# Altium footprint library 3-C-Ceramics.PcbLib: 89 footprints (part 2 of 6)
Each footprint in its own frame and in the unit in brackets; x right, y up, seen from the top. Pads: shape width x height; smd on the part's side, far side on the other; paste and mask are expansions set on the pad; w line width, h text height; cw(c..) or ccw(c..) is an arc to the next point about the centre after c.
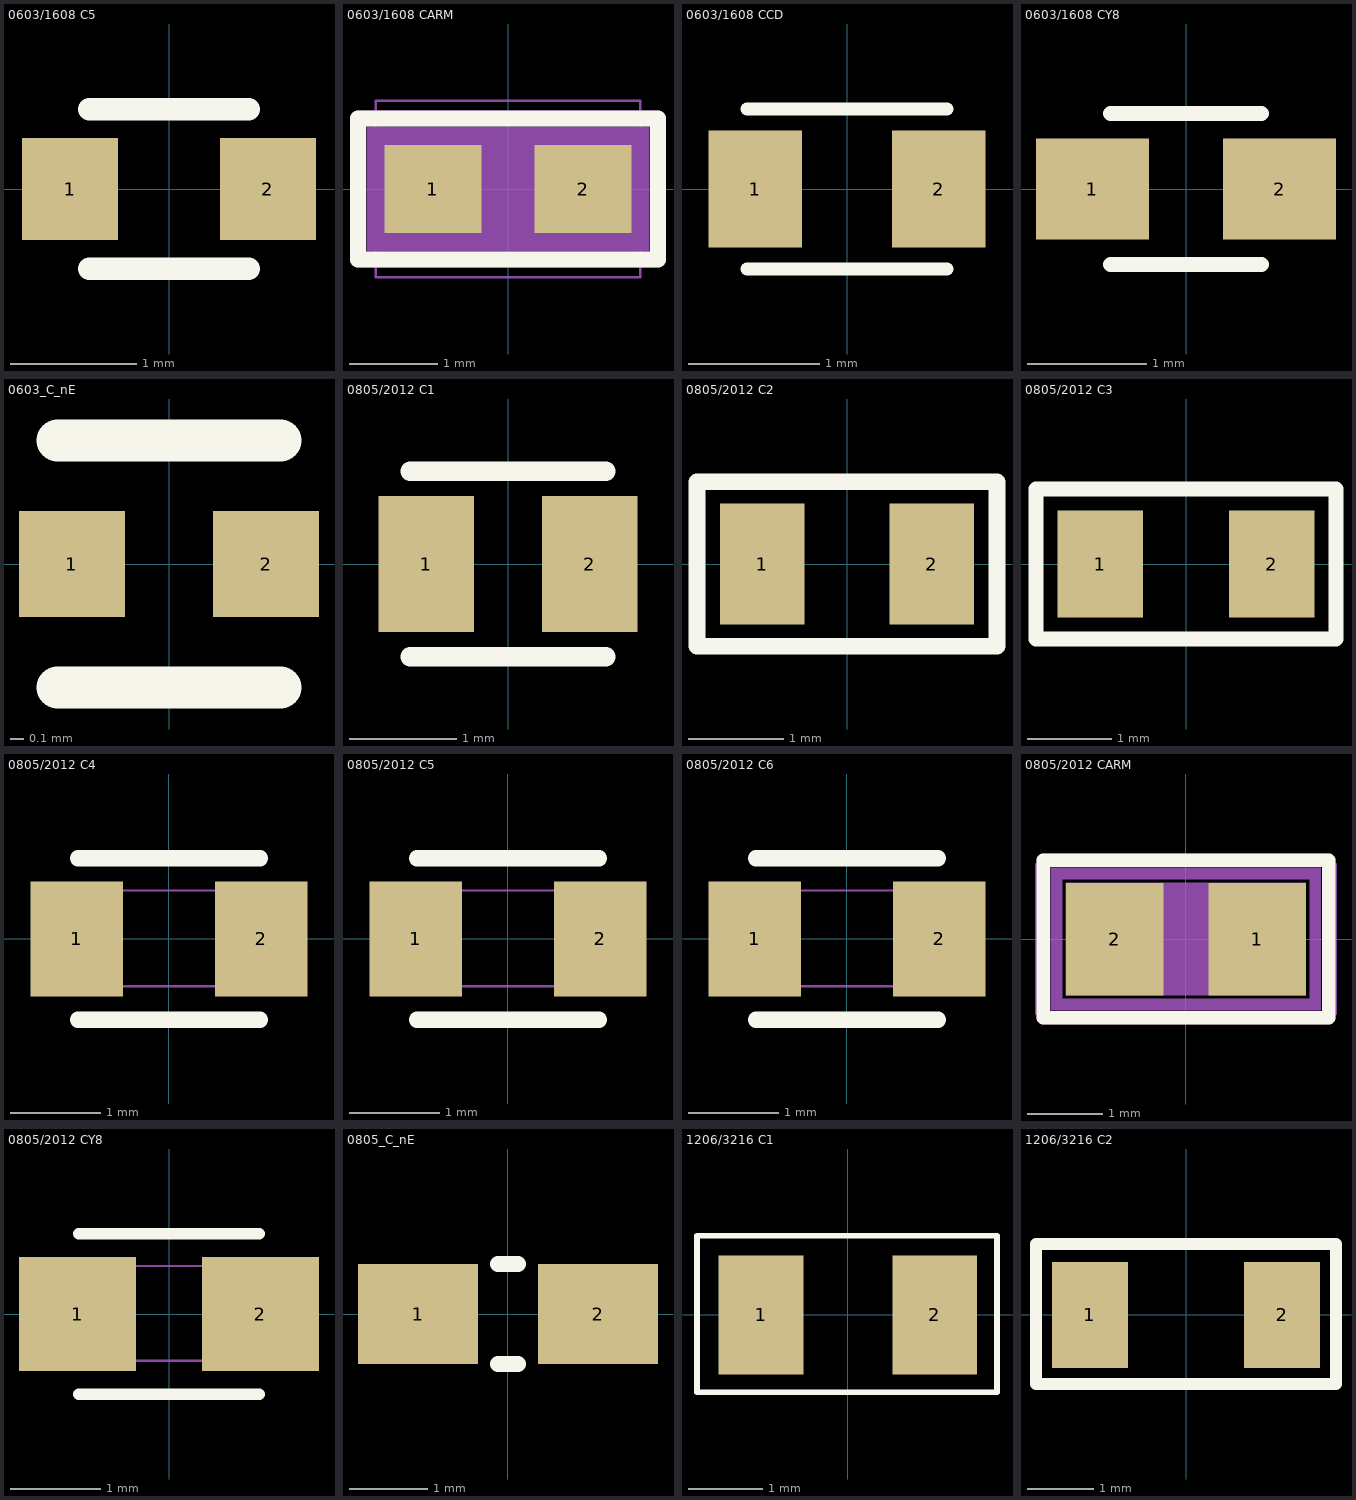
[diagram p1: the footprints below, top view; thin cyan lines are the x and y axes]

## 0603/1608 C5 [mil] "Murata & TDK 0603,25V,±10%,X7R,SERAMIC"
height 1771.65
pads (2):
  rect 30x32 smd: 1(-31,0) 2(31,0)
Top Overlay:
  lines w7: -25,-25 25,-25 ; -25,25 25,25
3D body "0_8128-0_762-0603.stp": height 0.79, standoff 0, extent 16,-16 46,16
3D body "0603c.stp": height 31.5, standoff 0, extent -31.5,-16 31.5,15.5
3D body "0_8128-0_762-0603.stp": height 0.79, standoff 0, extent -46,-16 -16,16

## 0603/1608 CARM [mm]
height 45
pads (2):
  rect 1.1x1 smd: 1(-0.85,0) 2(0.85,0)
Top Overlay:
  lines w0.18: -1.7,-0.8 1.7,-0.8 1.7,0.8 -1.7,0.8 -1.7,-0.8
Mechanical 6:
  lines w0.18: -1.7,-0.8 1.7,-0.8 1.7,0.8 -1.7,0.8 -1.7,-0.8
Mechanical 16:
  region: 1.6,0 1.405,0 1.405,-0.505 -1.405,-0.505 -1.405,0 -1.6,0 -1.6,-0.7 1.6,-0.7
  region: -1.4,0.5 1.4,0.5 1.4,-0.5 -1.4,-0.5
  region: -1.6,0 -1.405,0 -1.405,0.505 1.405,0.505 1.405,0 1.6,0 1.6,0.7 -1.6,0.7
  lines w0.025: -1.5,-1 1.5,-1 1.5,1 -1.5,1 -1.5,-1 ; -0.875,-0.475 0.875,-0.475 0.875,0.475 -0.875,0.475 -0.875,-0.475
Mechanical 18:
  text "1" at -0.65,0 h0.5
  text "2" at 1.05,0 h0.5
3D body "0603-armpad.stp": height 0, standoff 0, extent -1.4,-0.5 -0.3,0.5
3D body "0603-armpad.stp": height 0, standoff 0, extent 0.3,-0.5 1.4,0.5
3D body "0603c.stp": height 0.8, standoff 0, extent -0.8,-0.406 0.8,0.394

## 0603/1608 CCD [mil]
height 1771.65
pads (2):
  rect 28x35 smd mask+2.76: 1(-27.56,0)
  rect 28x35 smd mask+2: 2(27.56,0)
Top Overlay:
  lines w3.94: -30,-24 30,-24 ; -30,24 30,24
3D body "0_8128-0_762-0603.stp": height 0.79, standoff 0, extent 11.5,-16 41.5,16
3D body "0_8128-0_762-0603.stp": height 0.79, standoff 0, extent -42,-16 -12,16
3D body "0603c.stp": height 31.5, standoff 0, extent -31.5,-16 31.5,15.5

## 0603/1608 CY8 [mm]
pads (2):
  rect 0.95x0.85 smd: 1(-0.787,0) 2(0.787,0)
Top Overlay:
  lines w0.127: -0.635,-0.635 0.635,-0.635 ; -0.635,0.635 0.635,0.635
3D body "p095-085.stp": height 0.02, standoff 0, extent 0.313,-0.425 1.263,0.425
3D body "p095-085.stp": height 0.02, standoff 0, extent -1.262,-0.425 -0.312,0.425
3D body "0603c.stp": height 0.8, standoff 0, extent -0.8,-0.4 0.8,0.4

## 0603_C_nE [mil]
height 1771.65
pads (2):
  rect 30x30 smd: 1(-27.5,0)
  rect 30x30 smd mask+2.76: 2(27.5,0)
Top Overlay:
  lines w12: -31.5,-35 31.5,-35 ; -31.5,35 31.5,35
3D body "0603c.stp": height 31.5, standoff 0, extent -31.49,-15.75 31.5,15.75
3D body "0_762-0_762.stp": height 0.79, standoff 0, extent -42.5,-15 -12.5,15
3D body "0_762-0_762.stp": height 0.79, standoff 0, extent 12.51,-14.99 42.51,15.01

## 0805/2012 C1 [mil]
height 1771.65
pads (2):
  rect 35x50 smd mask+2.76: 1(-30,0)
  rect 35x50 smd: 2(30,0)
Top Overlay:
  lines w7: -36,-34 36,-34 ; -36,34 36,34
3D body "0805-c.stp": height 39.37, standoff 0, extent -39.37,-20 39.37,19.37
3D body "0_885-1_27-0805.stp": height 0.79, standoff 0, extent -47.5,-24.99 -12.5,25
3D body "0_885-1_27-0805.stp": height 0.79, standoff 0, extent 12.5,-25 47.5,24.99

## 0805/2012 C2 [mil]
height 1771.65
pads (2):
  rect 35x50 smd: 1(-35,0)
  rect 35x50 smd mask+2.76: 2(35,0)
Top Overlay:
  lines w7: -62,-34 -62,34 62,34 62,-34 1,-34 -62,-34
3D body "0_885-1_27-0805.stp": height 0.79, standoff 0, extent 17.5,-25 52.5,24.99
3D body "0_885-1_27-0805.stp": height 0.79, standoff 0, extent -52.5,-25 -17.5,24.99
3D body "0805-c.stp": height 39.37, standoff 0, extent -39.37,-20 39.37,19.37

## 0805/2012 C3 [mil]
height 1771.65
pads (2):
  rect 40x50 smd mask+2.76: 1(-40,0)
  rect 40x50 smd: 2(40,0)
Top Overlay:
  lines w7: -70,-35 0,-35 70,-35 70,35 -70,35 -70,-35
3D body "0805-c.stp": height 39.37, standoff 0, extent -39.37,-20 39.37,19.37
3D body "0805_1016_127.stp": height 0.39, standoff 0, extent -60,-25 -20,25
3D body "0805_1016_127.stp": height 0.39, standoff 0, extent 20,-25 60,25

## 0805/2012 C4 [mil]
pads (2):
  rect 40x50 smd: 1(-40,0)
  rect 40x50 smd mask+2.76: 2(40,0)
Top Overlay:
  lines w7: -39.37,-35 39.37,-35 ; -39.37,35 39.37,35
Mechanical 15:
  lines w1: -39.5,-20.5 39.5,-20.5 39.5,21 -39.5,21 -39.5,-20.5
3D body "0805-c.stp": height 39.37, standoff 0, extent -39.37,-20 39.37,19.37
3D body "0805_1016_127.stp": height 0.39, standoff 0, extent -60,-25 -20,25
3D body "0805_1016_127.stp": height 0.39, standoff 0, extent 20,-25 60,25

## 0805/2012 C5 [mil]
height 1771.65
pads (2):
  rect 40x50 smd: 1(-40,0)
  rect 40x50 smd mask+2.76: 2(40,0)
Top Overlay:
  lines w7: -39.37,-35 39.37,-35 ; -39.37,35 39.37,35
Mechanical 15:
  lines w1: -39.5,-20.5 -39.5,21 39.5,21 39.5,-20.5 -39.5,-20.5
3D body "0805_1016_127.stp": height 0.39, standoff 0, extent 20,-25 60,25
3D body "0805_1016_127.stp": height 0.39, standoff 0, extent -60,-25 -20,25
3D body "0805-c.stp": height 39.37, standoff 0, extent -39.37,-20 39.37,19.37

## 0805/2012 C6 [mil]
height 1771.65
pads (2):
  rect 40x50 smd: 1(-40,0)
  rect 40x50 smd mask+4: 2(40,0)
Top Overlay:
  lines w7: -39.37,-35 39.37,-35 ; -39.37,35 39.37,35
Mechanical 15:
  lines w1: -39.5,-20.5 -39.5,21 39.5,21 39.5,-20.5 -39.5,-20.5
3D body "0805_1016_127.stp": height 0.39, standoff 0, extent 20,-25 60,25
3D body "0805_1016_127.stp": height 0.39, standoff 0, extent -60,-25 -20,25
3D body "0805-c.stp": height 39.37, standoff 0, extent -39.37,-20 39.37,19.37

## 0805/2012 CARM [mm]
height 45
pads (2):
  rect 1.3x1.5 smd: 1(0.95,0) 2(-0.95,0)
Top Overlay:
  lines w0.18: -1.9,-1.05 1.9,-1.05 1.9,1.05 -1.9,1.05 -1.9,-1.05
Mechanical 7:
  lines w0.18: -1.9,-1.05 1.9,-1.05 1.9,1.05 -1.9,1.05 -1.9,-1.05
Mechanical 16:
  pour cut-out: 0.306,0 0.283,-0.117 0.216,-0.216 0.117,-0.283 0,-0.306 -0.117,-0.283 -0.216,-0.216 -0.283,-0.117 -0.306,0 -0.283,0.117 -0.216,0.216 -0.117,0.283 0,0.306 0.117,0.283 0.216,0.216 0.283,0.117
  region: 1.6,-0.75 -1.6,-0.75 -1.6,0.75 1.6,0.75
  region: 1.8,0 1.65,0 1.65,-0.8 -1.65,-0.8 -1.65,0 -1.8,0 -1.8,-0.95 1.8,-0.95
  region: -1.8,0 -1.65,0 -1.65,0.8 1.65,0.8 1.65,0 1.8,0 1.8,0.95 -1.8,0.95
  lines w0.025: -2,-1 -2,1 2,1 2,-1 -2,-1 ; -1.1,-0.725 1.1,-0.725 1.1,0.725 -1.1,0.725 -1.1,-0.725
Mechanical 18:
  text "1" at 0.75,0 h0.5
  text "2" at -1.15,0 h0.5
3D body "0805-c.stp": height 1, standoff 0, extent -1,-0.508 1,0.492
3D body "0805-arm.stp": height 0, standoff 0, extent -1.6,-0.75 -0.3,0.75
3D body "0805-arm.stp": height 0, standoff 0, extent 0.3,-0.75 1.6,0.75

## 0805/2012 CY8 [mm]
height 45
pads (2):
  rect 1.3x1.27 smd: 1(-1.016,0)
  rect 1.3x1.27 smd mask+0.07: 2(1.016,0)
Top Overlay:
  lines w0.127: -1,-0.889 1,-0.889 ; -1,0.889 1,0.889
Mechanical 15:
  lines w0.025: -1.003,-0.521 -1.003,0.533 1.003,0.533 1.003,-0.521 -1.003,-0.521
3D body "0805_1016_127.stp": height 0.01, standoff 0, extent 0.635,-0.635 1.651,0.635
3D body "0805_1016_127.stp": height 0.01, standoff 0, extent -1.676,-0.635 -0.66,0.635
3D body "0805-c.stp": height 1, standoff 0, extent -1,-0.508 1,0.492

## 0805_C_nE [mil]
height 1771.65
pads (2):
  rect 60x50 smd mask+2.76: 1(-45,0)
  rect 60x50 smd: 2(45,0)
Top Overlay:
  lines w8: -5,-25 5,-25 ; -5,25 5,25
3D body "0805-c.stp": height 39.37, standoff 0, extent -39.37,-19.69 39.37,19.69
3D body "1_524-1_27.stp": height 0.79, standoff 0, extent -74.99,-24.99 -14.99,25.01
3D body "1_524-1_27.stp": height 0.79, standoff 0, extent 15.01,-24.99 75.01,25.01

## 1206/3216 C1 [mil]
height 1771.65
pads (2):
  rect 45x63 smd: 1(-46,0)
  rect 45x63 smd mask+2.76: 2(46,0)
Top Overlay:
  lines w3: -80,-41 -80,42 79,42 79,-41 -80,-41
3D body "1_6-1_143-1206.stp": height 0.79, standoff 0, extent 23.5,-31.49 68.5,31.5
3D body "1_6-1_143-1206.stp": height 0.79, standoff 0, extent -68.5,-31.49 -23.5,31.5
3D body "1206-c.stp": height 62.99, standoff 0, extent -63,-31.5 62.98,31.49

## 1206/3216 C2 [mil]
height 1771.65
pads (2):
  rect 45x63 smd mask+2.76: 1(-57,0)
  rect 45x63 smd: 2(57,0)
Top Overlay:
  lines w7: -89,-41 -89,42 89,42 89,-41 -89,-41
3D body "1206-c.stp": height 62.99, standoff 0, extent -63,-31.5 62.98,31.49
3D body "1_6-1_143-1206.stp": height 0.79, standoff 0, extent -79.5,-31.49 -34.5,31.5
3D body "1_6-1_143-1206.stp": height 0.79, standoff 0, extent 34.51,-31.49 79.5,31.5